# Altium footprint library con-coax.PCBLIB: 28 footprints (part 1 of 2)
Each footprint in its own frame and in the unit in brackets; x right, y up, seen from the top. Pads: shape width x height; smd on the part's side, far side on the other; paste and mask are expansions set on the pad; w line width, h text height; cw(c..) or ccw(c..) is an arc to the next point about the centre after c.
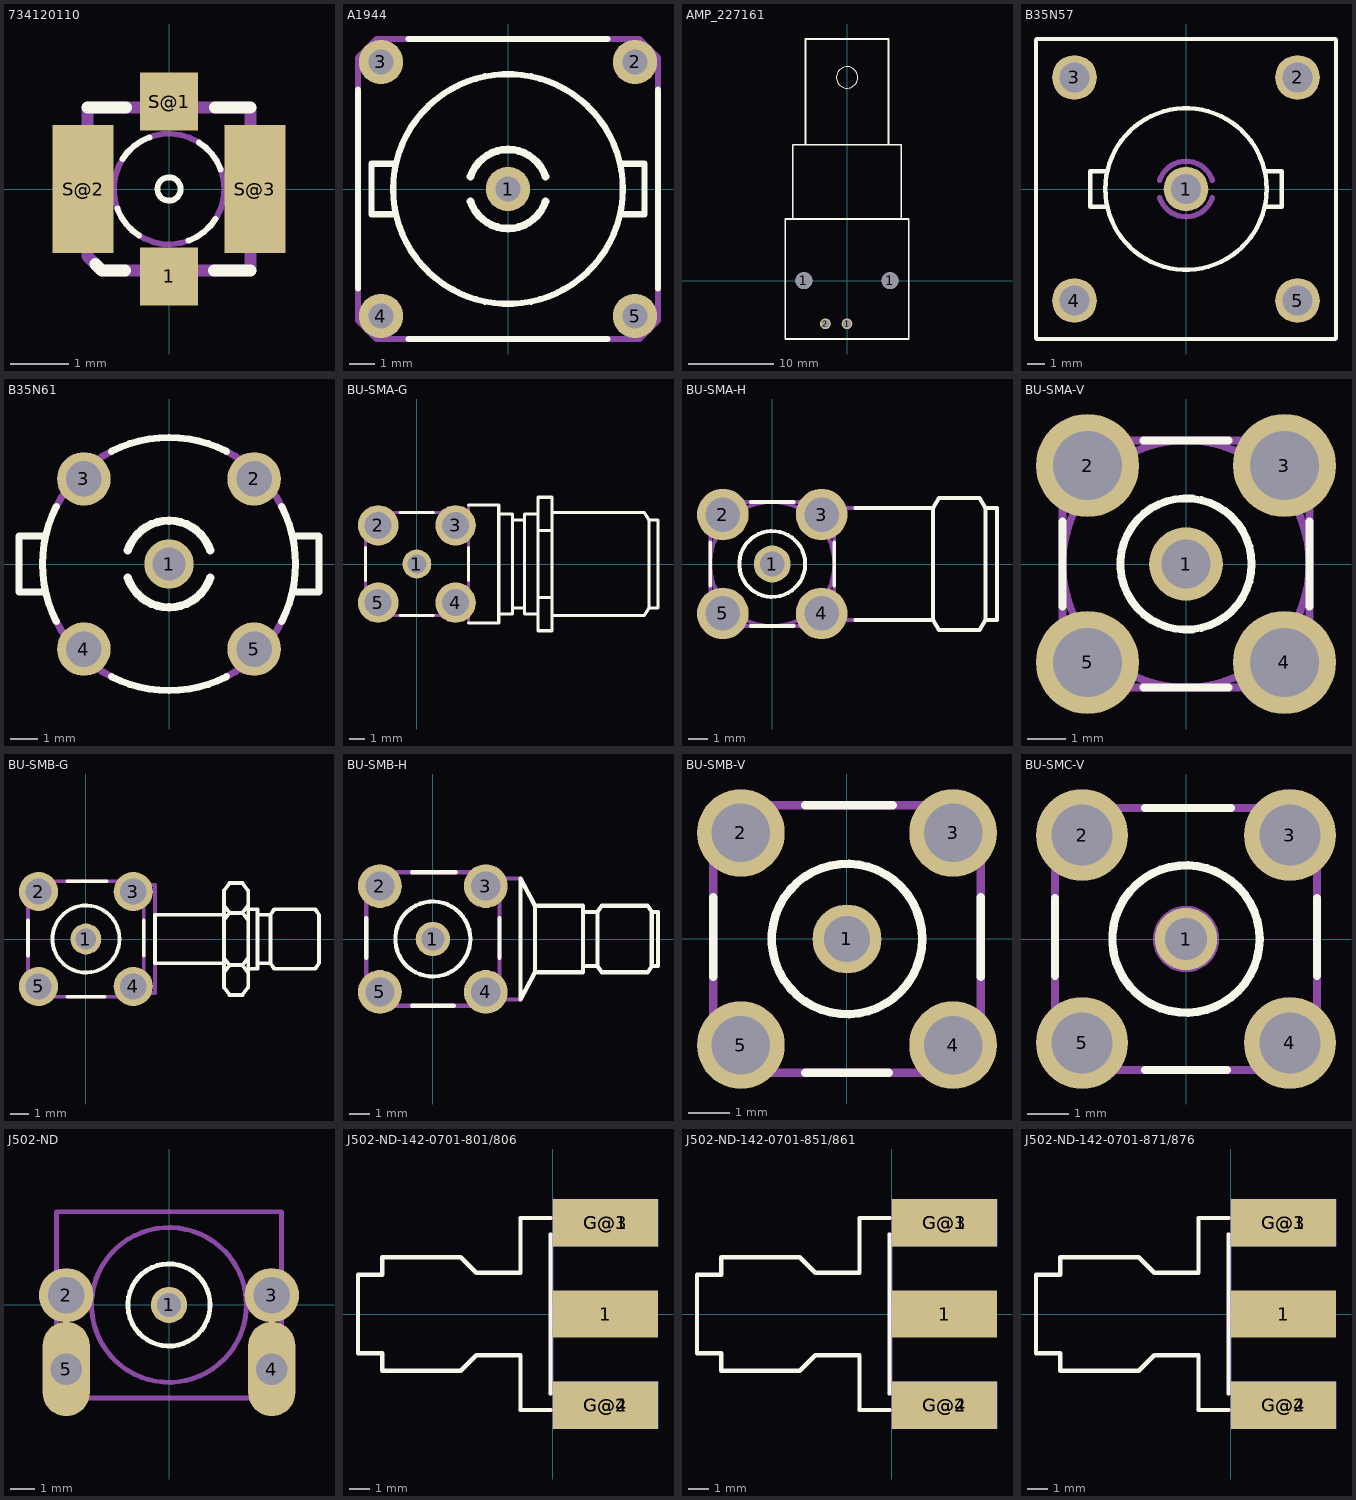
[diagram p0: the footprints below, top view; thin cyan lines are the x and y axes]

## 734120110 [mm]
pads (4):
  rect 1x1 smd: 1(0,-1.5) S@1(0,1.5)
  rect 1.05x2.2 smd: S@2(-1.475,0) S@3(1.475,0)
Top Overlay:
  circle w0.102: c0,0 r0.2
  lines w0.102: -0.887,-0.338 ccw(c-0.026,-0.023) -0.513,-0.8 ; -0.8,0.513 cw(c-0.023,0.026) -0.338,0.887 ; 0.338,-0.887 ccw(c0.023,-0.026) 0.8,-0.513 ; 0.513,0.8 cw(c0.026,0.023) 0.887,0.338
  lines w0.203: -1.4,1.4 -0.738,1.4 ; -1.262,-1.288 -1.15,-1.4 -0.75,-1.4 ; 0.775,-1.4 1.4,-1.4 ; 0.787,1.4 1.4,1.4
Mechanical 16:
  circle w0.102: c0,0 r0.95
  rectangle: -1.8,-0.9 -1.35,0.9
  rectangle: 1.35,-0.9 1.8,0.9
  rectangle: -0.3,1.5 0.3,1.8
  rectangle: -0.3,-1.8 0.3,-1.5
  lines w0.203: -1.4,-1.15 -1.15,-1.4 1.4,-1.4 1.4,1.4 -1.4,1.4 -1.4,-1.15

## A1944 [mil]
pads (5):
  round 70 hole 40: 1(0,0) 2(200,200) 3(-200,200) 4(-200,-200) 5(200,-200)
Top Overlay:
  circle w10: c0,0 r180.95
  lines w10: -236.22,-156.69 -236.22,156.69 ; -180,-40 -215,-40 -215,40 -180,40 ; -156.69,-236.22 156.69,-236.22 ; -156.69,236.22 156.69,236.22 ; 180,-40 215,-40 215,40 180,40 ; 236.22,-156.69 236.22,156.69
  lines w12: -59.06,-19.69 ccw(c0,0) 59.06,-19.69 ; -59.06,19.69 cw(c0,0) 59.06,19.69
Mechanical 16:
  lines w10: -236.22,-150 -236.22,-206.69 -206.69,-236.22 -150,-236.22 ; -236.22,150 -236.22,206.69 -206.69,236.22 -150,236.22 ; 150,-236.22 206.69,-236.22 236.22,-206.69 236.22,-150 ; 150,236.22 206.69,236.22 236.22,206.69 236.22,150

## AMP_227161 [mm]
pads (4):
  round 2 hole 2: 1(-5.08,0) 1(5.08,0)
  round 1.27 hole 0.9: 1(0,-5.08) 2(-2.54,-5.08)
Top Overlay:
  circle w0: c0,23.94 r1.26
  lines w0.203: -6.4,7.375 -6.4,16.025 6.4,16.025 6.4,7.35 ; -4.9,16.15 -4.9,28.475 4.9,28.475 4.9,16.125 ; -7.275,-6.875 7.275,-6.875 7.275,7.275 -7.275,7.275 -7.275,-6.875

## B35N57 [mil]
pads (5):
  round 100.39 hole 66.93: 1(0,0) 2(250,250) 3(-250,250) 4(-250,-250) 5(250,-250)
Top Overlay:
  circle w10: c0,0 r180.95
  lines w10: -336.22,-334.25 -336.22,334.25 ; -334.25,-336.22 334.25,-336.22 ; -334.25,336.22 334.25,336.22 ; -180,-40 -215,-40 -215,40 -180,40 ; 180,-40 215,-40 215,40 180,40 ; 336.22,-334.25 336.22,334.25
Mechanical 16:
  lines w12: -59.06,-19.69 ccw(c0,0) 59.06,-19.69 ; -59.06,19.69 cw(c0,0) 59.06,19.69
  text "B35 N57" at -100,-250 h37.2

## B35N61 [mil]
pads (5):
  round 70.86 hole 47.24: 1(0,0)
  round 76.77 hole 51.18: 2(122,122) 3(-122,122) 4(-122,-122) 5(122,-122)
Top Overlay:
  lines w10: -180,-40 -215,-40 -215,40 -180,40 ; -161.42,-82.68 cw(c0,0) -161.42,82.68 ; -82.68,-161.42 ccw(c0,0) 82.68,-161.42 ; -82.68,161.42 cw(c0,0) 82.68,161.42 ; 161.42,-82.68 ccw(c0,0) 161.42,82.68 ; 180,-40 215,-40 215,40 180,40
  lines w12: -59.06,-19.69 ccw(c0,0) 59.06,-19.69 ; -59.06,19.69 cw(c0,0) 59.06,19.69
Mechanical 16:
  lines w10: -161.42,-82.68 ccw(c0,0) -82.68,-161.42 ; -161.42,82.68 cw(c0,0) -82.68,161.42 ; 82.68,-161.42 ccw(c0,0) 161.42,-82.68 ; 82.68,161.42 cw(c0,0) 161.42,82.68
  text "B35 N61" at -50,-100 h37.2

## BU-SMA-G [mil]
pads (5):
  round 75 hole 50: 1(0,0)
  round 105 hole 70: 2(-100.39,100.39) 3(100.39,100.39) 4(100.39,-100.39) 5(-100.39,-100.39)
Top Overlay:
  lines w8: -133.86,-43.31 -133.86,43.31 ; -43.31,-133.86 43.31,-133.86 ; -43.31,133.86 43.31,133.86 ; 133.86,-153.54 212.6,-153.54 212.6,-129.92 ; 133.86,-43.31 133.86,43.31 ; 133.86,153.54 212.6,153.54 212.6,129.92 ; 212.6,-129.92 248.03,-129.92 248.03,-114.17 ; 212.6,-129.92 212.6,129.92 ; 212.6,129.92 248.03,129.92 248.03,114.17 ; 248.03,-114.17 279.53,-114.17 ; 248.03,-114.17 248.03,114.17 ; 248.03,114.17 279.53,114.17 ; 279.53,-114.17 279.53,-129.92 314.96,-129.92 ; 279.53,-114.17 279.53,114.17 ; 279.53,114.17 279.53,129.92 314.96,129.92 ; 314.96,-129.92 314.96,-86.61 ; 314.96,-129.92 314.96,-173.23 350.39,-173.23 350.39,-133.86 ; 314.96,-86.61 314.96,86.61 ; 314.96,-86.61 350.39,-86.61 ; 314.96,86.61 350.39,86.61 ; 314.96,86.61 314.96,129.92 ; 314.96,129.92 314.96,173.23 350.39,173.23 350.39,133.86 ; 350.39,-133.86 590.55,-133.86 602.36,-114.17 ; 350.39,-133.86 350.39,-86.61 ; 350.39,-86.61 350.39,86.61 ; 350.39,86.61 350.39,133.86 ; 350.39,133.86 590.55,133.86 602.36,114.17 ; 602.36,-114.17 625.98,-114.17 625.98,114.17 602.36,114.17 ; 602.36,-114.17 602.36,114.17
Mechanical 16:
  lines w8: 133.86,-153.54 133.86,-133.86 ; 133.86,153.54 133.86,133.86 ; 133.86,-133.86 133.86,133.86 ; 133.86,-133.86 -133.86,-133.86 -133.86,133.86 133.86,133.86

## BU-SMA-H [mil]
pads (5):
  round 75 hole 50: 1(0,0)
  round 105 hole 70: 2(-100.39,100.39) 3(100.39,100.39) 4(100.39,-100.39) 5(-100.39,-100.39)
Top Overlay:
  circle w8: c0,0 r66.93
  lines w8: -125.98,-43.31 -125.98,43.31 ; -43.31,-125.98 43.31,-125.98 ; -43.31,125.98 43.31,125.98 ; 125.98,-43.31 125.98,43.31 ; 169.29,-114.17 326.77,-114.17 ; 169.29,114.17 326.77,114.17 ; 326.77,-114.17 338.58,-133.86 421.26,-133.86 433.07,-114.17 ; 326.77,-114.17 326.77,114.17 ; 326.77,114.17 338.58,133.86 421.26,133.86 433.07,114.17 ; 433.07,-114.17 456.69,-114.17 456.69,114.17 433.07,114.17 ; 433.07,-114.17 433.07,114.17
Mechanical 16:
  circle w8: c0,0 r125.98
  lines w8: 169.29,-114.17 125.98,-114.17 ; 169.29,114.17 125.98,114.17 ; 125.98,-114.17 125.98,114.17 ; 125.98,-114.17 125.98,-125.98 -125.98,-125.98 -125.98,125.98 125.98,125.98 125.98,114.17

## BU-SMA-V [mil]
pads (5):
  round 75 hole 50: 1(0,0)
  round 105 hole 70: 2(-100.39,100.39) 3(100.39,100.39) 4(100.39,-100.39) 5(-100.39,-100.39)
Top Overlay:
  circle w8: c0,0 r66.93
  lines w8: -125.98,-43.31 -125.98,43.31 ; -43.31,-125.98 43.31,-125.98 ; -43.31,125.98 43.31,125.98 ; 125.98,-43.31 125.98,43.31
Mechanical 16:
  circle w8: c0,0 r125.98
  lines w8: -125.98,-125.98 125.98,-125.98 125.98,125.98 -125.98,125.98 -125.98,-125.98

## BU-SMB-G [mil]
pads (5):
  round 64.97 hole 43.31: 1(0,0)
  round 82.68 hole 55.12: 2(-100,100) 3(100,100) 4(100,-100) 5(-100,-100)
Top Overlay:
  circle w8: c0,0 r70.87
  lines w8: -122.05,-35.43 -122.05,39.37 ; -39.37,-122.05 39.37,-122.05 ; -39.37,122.05 43.31,122.05 ; 122.05,-35.43 122.05,39.37 ; 291.34,-70.87 291.34,-102.36 303.15,-118.11 330.71,-118.11 342.52,-102.36 342.52,-70.87 ; 291.34,-70.87 291.34,-51.18 ; 291.34,-70.87 303.15,-55.12 ; 291.34,-51.18 291.34,-39.37 ; 291.34,-51.18 145.67,-51.18 145.67,51.18 291.34,51.18 ; 291.34,-39.37 291.34,39.37 ; 291.34,-39.37 303.15,-55.12 ; 291.34,39.37 291.34,51.18 ; 291.34,39.37 303.15,55.12 ; 291.34,51.18 291.34,70.87 ; 291.34,70.87 291.34,102.36 303.15,118.11 330.71,118.11 342.52,102.36 342.52,70.87 ; 291.34,70.87 303.15,55.12 ; 303.15,-55.12 330.71,-55.12 ; 303.15,55.12 330.71,55.12 ; 330.71,-55.12 342.52,-70.87 ; 330.71,-55.12 342.52,-39.37 ; 330.71,55.12 342.52,70.87 ; 330.71,55.12 342.52,39.37 ; 342.52,-70.87 342.52,-62.99 ; 342.52,-62.99 342.52,-39.37 ; 342.52,-62.99 362.2,-62.99 362.2,-51.18 ; 342.52,-39.37 342.52,39.37 ; 342.52,39.37 342.52,62.99 ; 342.52,62.99 342.52,70.87 ; 342.52,62.99 362.2,62.99 362.2,51.18 ; 362.2,-51.18 362.2,51.18 ; 362.2,-51.18 389.76,-51.18 ; 362.2,51.18 389.76,51.18 ; 389.76,-51.18 389.76,51.18 ; 389.76,-51.18 397.64,-62.99 484.25,-62.99 492.13,-51.18 492.13,51.18 484.25,62.99 397.64,62.99 389.76,51.18
Mechanical 16:
  circle w40: c0,0 r11.81
  lines w8: 125.98,-114.17 145.67,-114.17 145.67,-51.18 ; 125.98,114.17 145.67,114.17 145.67,51.18 ; -122.05,-122.05 122.05,-122.05 122.05,122.05 -122.05,122.05 -122.05,-122.05

## BU-SMB-H [mil]
pads (5):
  round 64.97 hole 43.31: 1(0,0)
  round 82.68 hole 55.12: 2(-100,100) 3(100,100) 4(100,-100) 5(-100,-100)
Top Overlay:
  circle w8: c0,0 r70.87
  lines w8: -125.98,-35.43 -125.98,39.37 ; -39.37,-125.98 39.37,-125.98 ; -39.37,125.98 43.31,125.98 ; 125.98,-35.43 125.98,39.37 ; 192.91,-62.99 192.91,62.99 ; 192.91,-62.99 165.35,-114.17 165.35,114.17 192.91,62.99 ; 192.91,-62.99 283.46,-62.99 283.46,-51.18 ; 192.91,62.99 283.46,62.99 283.46,51.18 ; 283.46,-51.18 283.46,51.18 ; 283.46,-51.18 311.02,-51.18 ; 283.46,51.18 311.02,51.18 ; 311.02,-51.18 311.02,51.18 ; 311.02,-51.18 318.9,-62.99 405.51,-62.99 413.39,-51.18 ; 311.02,51.18 318.9,62.99 405.51,62.99 413.39,51.18 ; 413.39,-51.18 425.2,-51.18 425.2,51.18 413.39,51.18 ; 413.39,-51.18 413.39,51.18
Mechanical 16:
  circle w40: c0,0 r11.81
  lines w8: 129.92,-114.17 165.35,-114.17 ; 129.92,114.17 165.35,114.17 ; -125.98,-125.98 125.98,-125.98 125.98,125.98 -125.98,125.98 -125.98,-125.98

## BU-SMB-V [mil]
pads (5):
  round 64.97 hole 43.31: 1(0,0)
  round 82.68 hole 55.12: 2(-100,100) 3(100,100) 4(100,-100) 5(-100,-100)
Top Overlay:
  circle w8: c0,0 r70.87
  lines w8: -125.98,-35.43 -125.98,39.37 ; -39.37,-125.98 39.37,-125.98 ; -39.37,125.98 43.31,125.98 ; 125.98,-35.43 125.98,39.37
Mechanical 16:
  circle w40: c0,0 r11.81
  lines w8: -125.98,-125.98 125.98,-125.98 125.98,125.98 -125.98,125.98 -125.98,-125.98

## BU-SMC-V [mil]
pads (5):
  round 60 hole 40: 1(0,0)
  round 88.59 hole 59.06: 2(-100,100) 3(100,100) 4(100,-100) 5(-100,-100)
Top Overlay:
  circle w8: c0,0 r70.87
  lines w8: -125.98,-35.43 -125.98,39.37 ; -39.37,-125.98 39.37,-125.98 ; -39.37,125.98 43.31,125.98 ; 125.98,-35.43 125.98,39.37
Mechanical 16:
  circle w40: c0,0 r11.81
  lines w8: -125.98,-125.98 125.98,-125.98 125.98,125.98 -125.98,125.98 -125.98,-125.98

## J502-ND [mm]
pads (5):
  round 1.5 hole 1: 1(0,0)
  round 2.25 hole 1.5: 2(-4.25,0.4) 3(4.25,0.4)
  oval 1.95x3.9 hole 1.3: 4(4.25,-2.65) 5(-4.25,-2.65)
Top Overlay:
  circle w0.203: c0,0 r1.7
Mechanical 11:
  lines w0: -4.9,-3.5 -4.9,-1.8 cw(c-4.25,-1.8) -3.6,-1.8 -3.6,-3.5 cw(c-4.25,-3.5) -4.9,-3.5 ; 3.6,-3.5 3.6,-1.8 cw(c4.25,-1.8) 4.9,-1.8 4.9,-3.5 cw(c4.25,-3.5) 3.6,-3.5
Mechanical 16:
  circle w0.203: c0,0 r3.2
  lines w0.203: -4.65,-3.85 4.65,-3.85 4.65,3.85 -4.65,3.85 -4.65,-3.85

## J502-ND-142-0701-801/806 [mil]
pads (5):
  rect 200x90 smd: 1(101,0) G@1(101,174) G@2(101,-174)
  rect 200x90 smd far side: G@3(101,174) G@4(101,-174)
Top Overlay:
  lines w8: -3.94,-183.07 -61.02,-183.07 -61.02,-78.74 -145.67,-78.74 -175.2,-108.27 -324.8,-108.27 -324.8,-74.8 -371.06,-74.8 -371.06,74.8 -324.8,74.8 -324.8,108.27 -175.2,108.27 -145.67,78.74 -61.02,78.74 -61.02,183.07 -3.94,183.07 ; -3.94,-151.57 -3.94,151.57
Mechanical 1:
  lines w0: 0,-220 0,220
Mechanical 16:
  rectangle: -0.98,-19.69 159.45,19.69
  lines w8: -61.02,-183.07 183.07,-183.07 183.07,-151.57 -3.94,-151.57 ; -61.02,183.07 183.07,183.07 183.07,151.57 -3.94,151.57

## J502-ND-142-0701-851/861 [mil]
pads (5):
  rect 200x90 smd: 1(101,0) G@1(101,174) G@2(101,-174)
  rect 200x90 smd far side: G@3(101,174) G@4(101,-174)
Top Overlay:
  lines w8: -3.94,-183.07 -61.02,-183.07 -61.02,-78.74 -145.67,-78.74 -175.2,-108.27 -324.8,-108.27 -324.8,-74.8 -371.06,-74.8 -371.06,74.8 -324.8,74.8 -324.8,108.27 -175.2,108.27 -145.67,78.74 -61.02,78.74 -61.02,183.07 -3.94,183.07 ; -3.94,-151.57 -3.94,151.57
Mechanical 1:
  lines w0: 0,-220 0,220
Mechanical 16:
  rectangle: -0.98,-19.69 159.45,19.69
  lines w8: -61.02,-183.07 183.07,-183.07 183.07,-151.57 -3.94,-151.57 ; -61.02,183.07 183.07,183.07 183.07,151.57 -3.94,151.57

## J502-ND-142-0701-871/876 [mil]
pads (5):
  rect 200x90 smd: 1(101,0) G@1(101,174) G@2(101,-174)
  rect 200x90 smd far side: G@3(101,174) G@4(101,-174)
Top Overlay:
  lines w8: -3.94,-183.07 -61.02,-183.07 -61.02,-78.74 -145.67,-78.74 -175.2,-108.27 -324.8,-108.27 -324.8,-74.8 -371.06,-74.8 -371.06,74.8 -324.8,74.8 -324.8,108.27 -175.2,108.27 -145.67,78.74 -61.02,78.74 -61.02,183.07 -3.94,183.07 ; -3.94,-151.57 -3.94,151.57
Mechanical 1:
  lines w0: 0,-220 0,220
Mechanical 16:
  rectangle: -0.98,-19.69 159.45,19.69
  lines w8: -61.02,-183.07 183.07,-183.07 183.07,-151.57 -3.94,-151.57 ; -61.02,183.07 183.07,183.07 183.07,151.57 -3.94,151.57